# Altium footprint library environment.PcbLib: 46 footprints (part 1 of 3)
Each footprint in its own frame and in the unit in brackets; x right, y up, seen from the top. Pads: shape width x height; smd on the part's side, far side on the other; paste and mask are expansions set on the pad; w line width, h text height; cw(c..) or ccw(c..) is an arc to the next point about the centre after c.
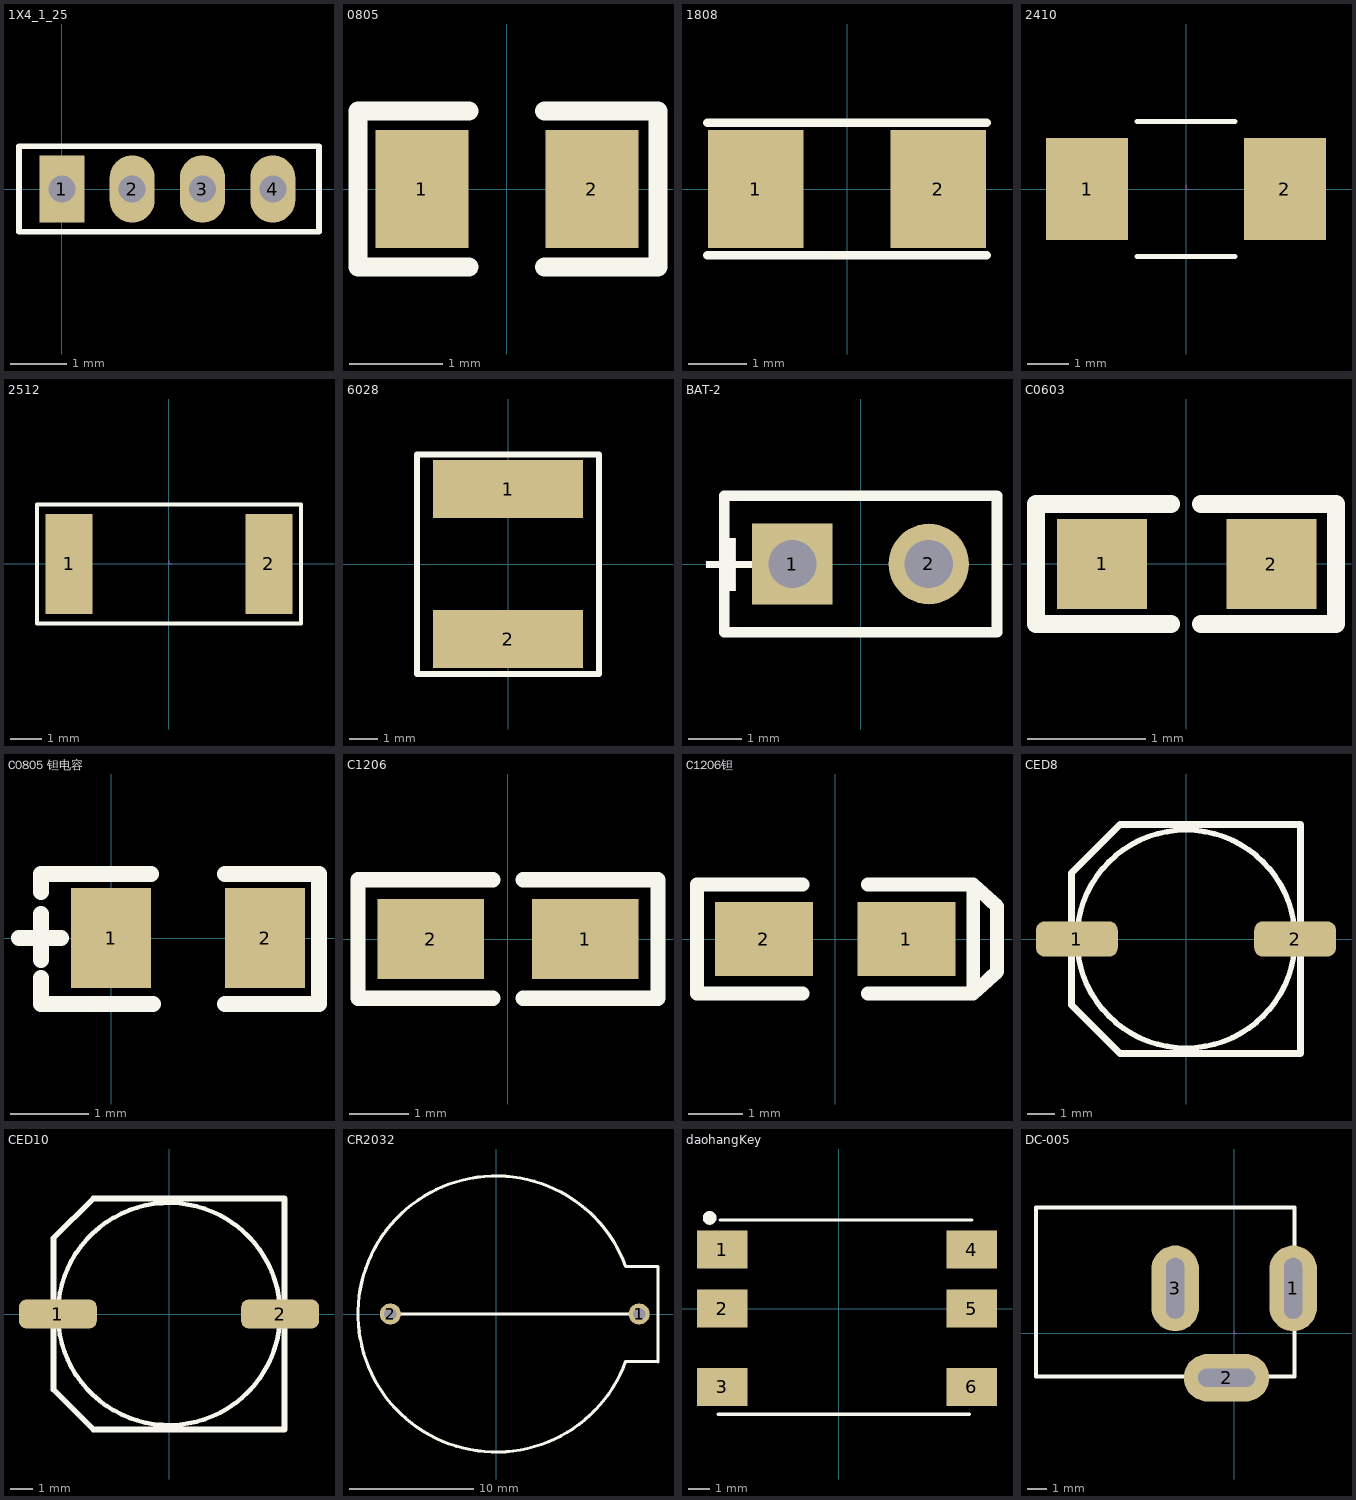
[diagram p0: the footprints below, top view; thin cyan lines are the x and y axes]

## 1X4_1_25 [mm]
pads (4):
  rect 0.8x1.2 hole 0.48 square: 1(0,0)
  oval 0.8x1.2 hole 0.48 square: 2(1.25,0) 3(2.5,0) 4(3.75,0)
Top Overlay:
  lines w0.1: -0.762,-0.762 4.572,-0.762 4.572,0.762 -0.762,0.762 -0.762,-0.762

## 0805 [mm]
pads (2):
  rect 1x1.27 smd: 1(-0.914,0) 2(0.914,0)
Top Overlay:
  lines w0.203: -0.406,-0.838 -1.6,-0.838 -1.6,0.838 -0.406,0.838 ; 0.406,-0.838 1.626,-0.838 1.626,0.838 0.406,0.838

## 1808 [mil] "保险丝底座"
pads (2):
  rect 65x80 smd: 1(-62,0) 2(62,0)
Top Overlay:
  lines w6: -95,-45 95,-45 ; -95,45 95,45

## 2410 [mm]
pads (2):
  rect 2x2.5 smd: 1(-2.413,0) 2(2.413,0)
Top Overlay:
  lines w0.127: -1.2,-1.651 1.2,-1.651 ; -1.2,1.651 1.2,1.651
Mechanical 2:
  lines w0.025: 0,0.102 0,0 0.102,0

## 2512 [mm]
pads (2):
  rect 1.5x3.2 smd: 1(-3.2,0) 2(3.2,0)
Top Overlay:
  lines w0.127: -3.8,1.9 4.218,1.9 ; 4.218,1.9 -4.218,1.9 -4.218,-1.901 4.218,-1.901 4.218,1.9
Mechanical 2:
  lines w0.025: 0,0.102 0,0 0.102,0

## 6028 [mm]
pads (2):
  rect 5.2x2 smd: 1(0,2.6) 2(0,-2.6)
Top Overlay:
  lines w0.203: -3.15,-3.81 3.15,-3.81 3.15,3.8 -3.15,3.8 -3.15,-3.81

## BAT-2 [mm]
pads (2):
  rect 1.5x1.5 hole 0.9: 1(-1.27,0)
  round 1.5 hole 0.9: 2(1.27,0)
Top Overlay:
  lines w0.2: -2.54,-1.27 2.54,-1.27 2.54,1.27 -2.54,1.27 -2.54,-1.27
  text "+" at -3.048,-0.508 h1.15

## C0603 [mil]
pads (2):
  rect 30x30 smd: 1(-28,0) 2(28.5,-0.06)
Top Overlay:
  lines w6: -5,-20.06 -50,-20.06 -50,19.94 -5,19.94 ; 5,-20.06 50,-20.06 50,19.94 5,19.94

## C0805 钽电容 [mil]
pads (2):
  rect 40x50 smd: 1(0,-0.06) 2(77,-0.06)
Top Overlay:
  lines w8: -46,0 -25,0 ; -35,-20 -35,-33 21,-33 ; -35,-11 -35,12 ; -35,23 -35,32 20,32 ; 57,-33 104,-33 104,32 57,32

## C1206 [mm]
pads (2):
  rect 1.8x1.35 smd: 1(1.31,0) 2(-1.31,0)
Top Overlay:
  lines w0.254: -0.254,-1.002 -2.537,-1.002 -2.537,1.002 -0.254,1.002 ; 0.254,-1.002 2.537,-1.002 2.537,1.002 0.254,1.002
3D body: height 1.71, standoff 0, extent -1.7,-0.84 1.7,0.84

## C1206钽 [mm]
pads (2):
  rect 1.8x1.35 smd: 1(1.31,0) 2(-1.31,0)
Top Overlay:
  lines w0.254: -0.6,-1.002 -2.537,-1.002 -2.537,1.002 -0.6,1.002 ; 0.6,-1.002 2.537,-1.002 ; 0.6,1.002 2.537,1.002 ; 2.537,-1.002 2.973,-0.6 2.973,0.6 2.537,1.002 ; 2.537,-1.002 2.537,1.002
3D body: height 1.71, standoff 0, extent -1.7,-0.84 1.7,0.84

## CED8 [mm] "底座为8*8的贴片点解电容"
height 10
pads (2):
  rrect50% 3x1.3 smd: 1(-4,0) 2(4,0)
Top Overlay:
  circle w0.2: c0,0 r4
  lines w0.254: -4.2,-2.413 -2.413,-4.2 4.2,-4.2 4.2,4.2 -2.413,4.2 -4.2,2.413 -4.2,-2.413
3D body: height 7.7, standoff 0, extent -3.5,-3.3 3.5,3.3

## CED10 [mm] "电解电容"
pads (2):
  rrect50% 3.5x1.3 smd: 1(-5,0) 2(5,0)
Top Overlay:
  circle w0.2: c0,0 r5
  lines w0.254: -5.2,3.404 -5.2,-3.404 -3.404,-5.2 5.2,-5.2 5.2,5.2 -3.404,5.2 -5.191,3.413
3D body: height 10.5, standoff 0, extent -4.475,-4.118 4.525,4.182

## CR2032 [mm]
pads (2):
  round 1.7 hole 1: 1(11.5,0) 2(-8.5,0)
Top Overlay:
  lines w0.254: -8.5,0 11.5,0 ; 10.414,-3.81 13,-3.81 ; 10.414,3.828 13,3.828 ; 10.418,3.83 ccw(c0,0) 10.424,-3.814 ; 13.019,-3.848 13.019,3.81

## daohangKey [mm] "导向按键"
pads (6):
  rect 2.4x1.8 smd: 1(-5.5,2.8) 2(-5.5,0) 3(-5.5,-3.7) 4(6.3,2.8) 5(6.3,0) 6(6.3,-3.7)
Top Overlay:
  circle w0.254: c-6.1,4.3 r0.1
  circle w0.254: c-6.1,4.3 r0.2
  lines w0.152: -5.7,-5 6.2,-5 ; -5.6,4.2 6.3,4.2

## DC-005 [mm]
pads (3):
  oval 2.5x4.5 hole 0.953 slot 3.2 at 90 deg: 1(3.1,2.35) 3(-3.1,2.35)
  oval 4.5x2.5 hole 0.953 slot 3 at 0 deg: 2(-0.4,-2.35)
Top Overlay:
  lines w0.203: -10.414,-2.286 3.175,-2.286 3.175,6.6 -10.414,6.6 -10.414,-2.286
Mechanical 2:
  lines w0.025: 0,0.127 0,0 0.127,0